# Altium schematic symbol library 电容.SchLib: 3 symbols
Pins are listed as number, name and electrical type; pins without a type are passive.

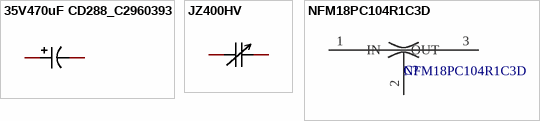
[diagram p0: symbols 35V470uF CD288_C2960393 to NFM18PC104R1C3D]

## 35V470uF CD288_C2960393
designator C??  (value not drawn)
Manufacturer: HRK(鸿瑞凯电子); Name: 470uF; Add into BOM: yes; Value: 470uF; Tolerance: ±20%; Rated Voltage: 35V; φD: 10mm; L: 17mm; Symbol: 35V470UF CD288_C2960393; Device: 35V470uF CD288_C2960393; LCSC Part Name: 470uF ±20% 35V; Supplier Part: C2960393; Manufacturer Part: 35V470uF CD288; Supplier Footprint: 插件,D10xL17mm; JLCPCB Part Class: Extended Part; Datasheet: https://atta.szlcsc.com/upload/public/pdf/source/20220224/0A78901BE22914A0FEAF77AFF8FEC343.pdf; Supplier: LCSC; Convert to PCB: yes; Lead Spacing: 5mm; Operating Temperature: -40℃~+105℃
footprint CAP-TH_BD10.0-P5.00-D0.6-FD
3D model CAP-TH_BD10.0-P5.00-D0.6-FD
footprint CAP-SMD_BD6.3-L6.6-W6.6-FD
pins: 1, 2

## JZ400HV
designator C??  (value not drawn)
Manufacturer: Knowles(楼氏); Add into BOM: yes; electrostatic capacity: 8pF~40pF; Rated Voltage: 350V; Q @ Freq: 1500@1MHz; Body Height: 1.45mm; Name: JZ400HV; Symbol: JZ400HV; Device: JZ400HV; LCSC Part Name: 8pF~40pF 350V; Supplier Part: C3273268; Manufacturer Part: JZ400HV; Supplier Footprint: -; JLCPCB Part Class: Extended Part; Supplier: LCSC; Convert to PCB: yes; Operating Temperature: -40℃~+85℃
footprint CAP-ADJ-SMD_L4.5-W3.2-L
3D model CAP-ADJ-SMD_L4.5-W3.2-H1.6
pins: 1, 2

## NFM18PC104R1C3D
designator C?
容值:100nF;精度:±20%;直流电阻(DCR):30mΩ;; Manufacturer: muRata(村田); SEEX_AUTHOR: ref42; SEEX_COMPONENT_ID: C111493; Current Rating: 2A; DC Resistance(DCR): 30mΩ; Nominal Capacitance: 100nF; Tolerance: ?0%; Voltage Rating: 16V; SEEX_PROJECT_URL: https://github.com/ref42/seex; Footprint: FILTER-SMD_3P-L1.6-W0.8-L_NFM18CC223R1C3D; Datasheet: https://item.szlcsc.com/datasheet/NFM18PC104R1C3D/112719.html; JLCPCB Part Class: Extended Part; LCSC Part Name: 100nF(104) ?0% 16V; Manufacturer Part: NFM18PC104R1C3D; Operating Temperature: -55℃~+125℃; Supplier: LCSC; Supplier Footprint: SMD-3P,1.6x0.8mm; Supplier Part: C111493
footprint FILTER-SMD_3P-L1.6-W0.8-L_NFM18CC223R1C3D (SMD-3P,0.8x1.6mm; 0603)
pins: 1 IN, 2 GND, 3 OUT